# Altium schematic symbol library sensor.SchLib: 3 symbols
Pins are listed as number, name and electrical type; pins without a type are passive.

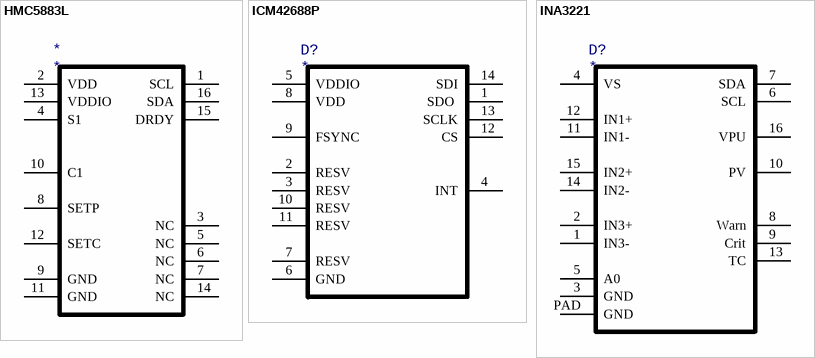
[diagram p0: symbols HMC5883L to INA3221]

## HMC5883L
designator *
pins: 1 SCL, 2 VDD, 3 NC, 4 S1, 5 NC, 6 NC, 7 NC, 8 SETP, 9 GND, 10 C1, 11 GND, 12 SETC, 13 VDDIO, 14 NC, 15 DRDY, 16 SDA

## ICM42688P
designator D?
pins: 1 SDO , 2 RESV, 3 RESV, 4 INT, 5 VDDIO, 6 GND, 7 RESV, 8 VDD, 9 FSYNC, 10 RESV, 11 RESV, 12 CS, 13 SCLK, 14 SDI

## INA3221
designator D?
pins: 1 IN3-, 2 IN3+, 3 GND, 4 VS, 5 A0, 6 SCL, 7 SDA, 8 Warn, 9 Crit, 10 PV, 11 IN1-, 12 IN1+, 13 TC, 14 IN2-, 15 IN2+, 16 VPU, PAD GND